# Altium schematic symbol library NuM487_DEVB.SchLib: 14 symbols
Pins are listed as number, name and electrical type; pins without a type are passive.

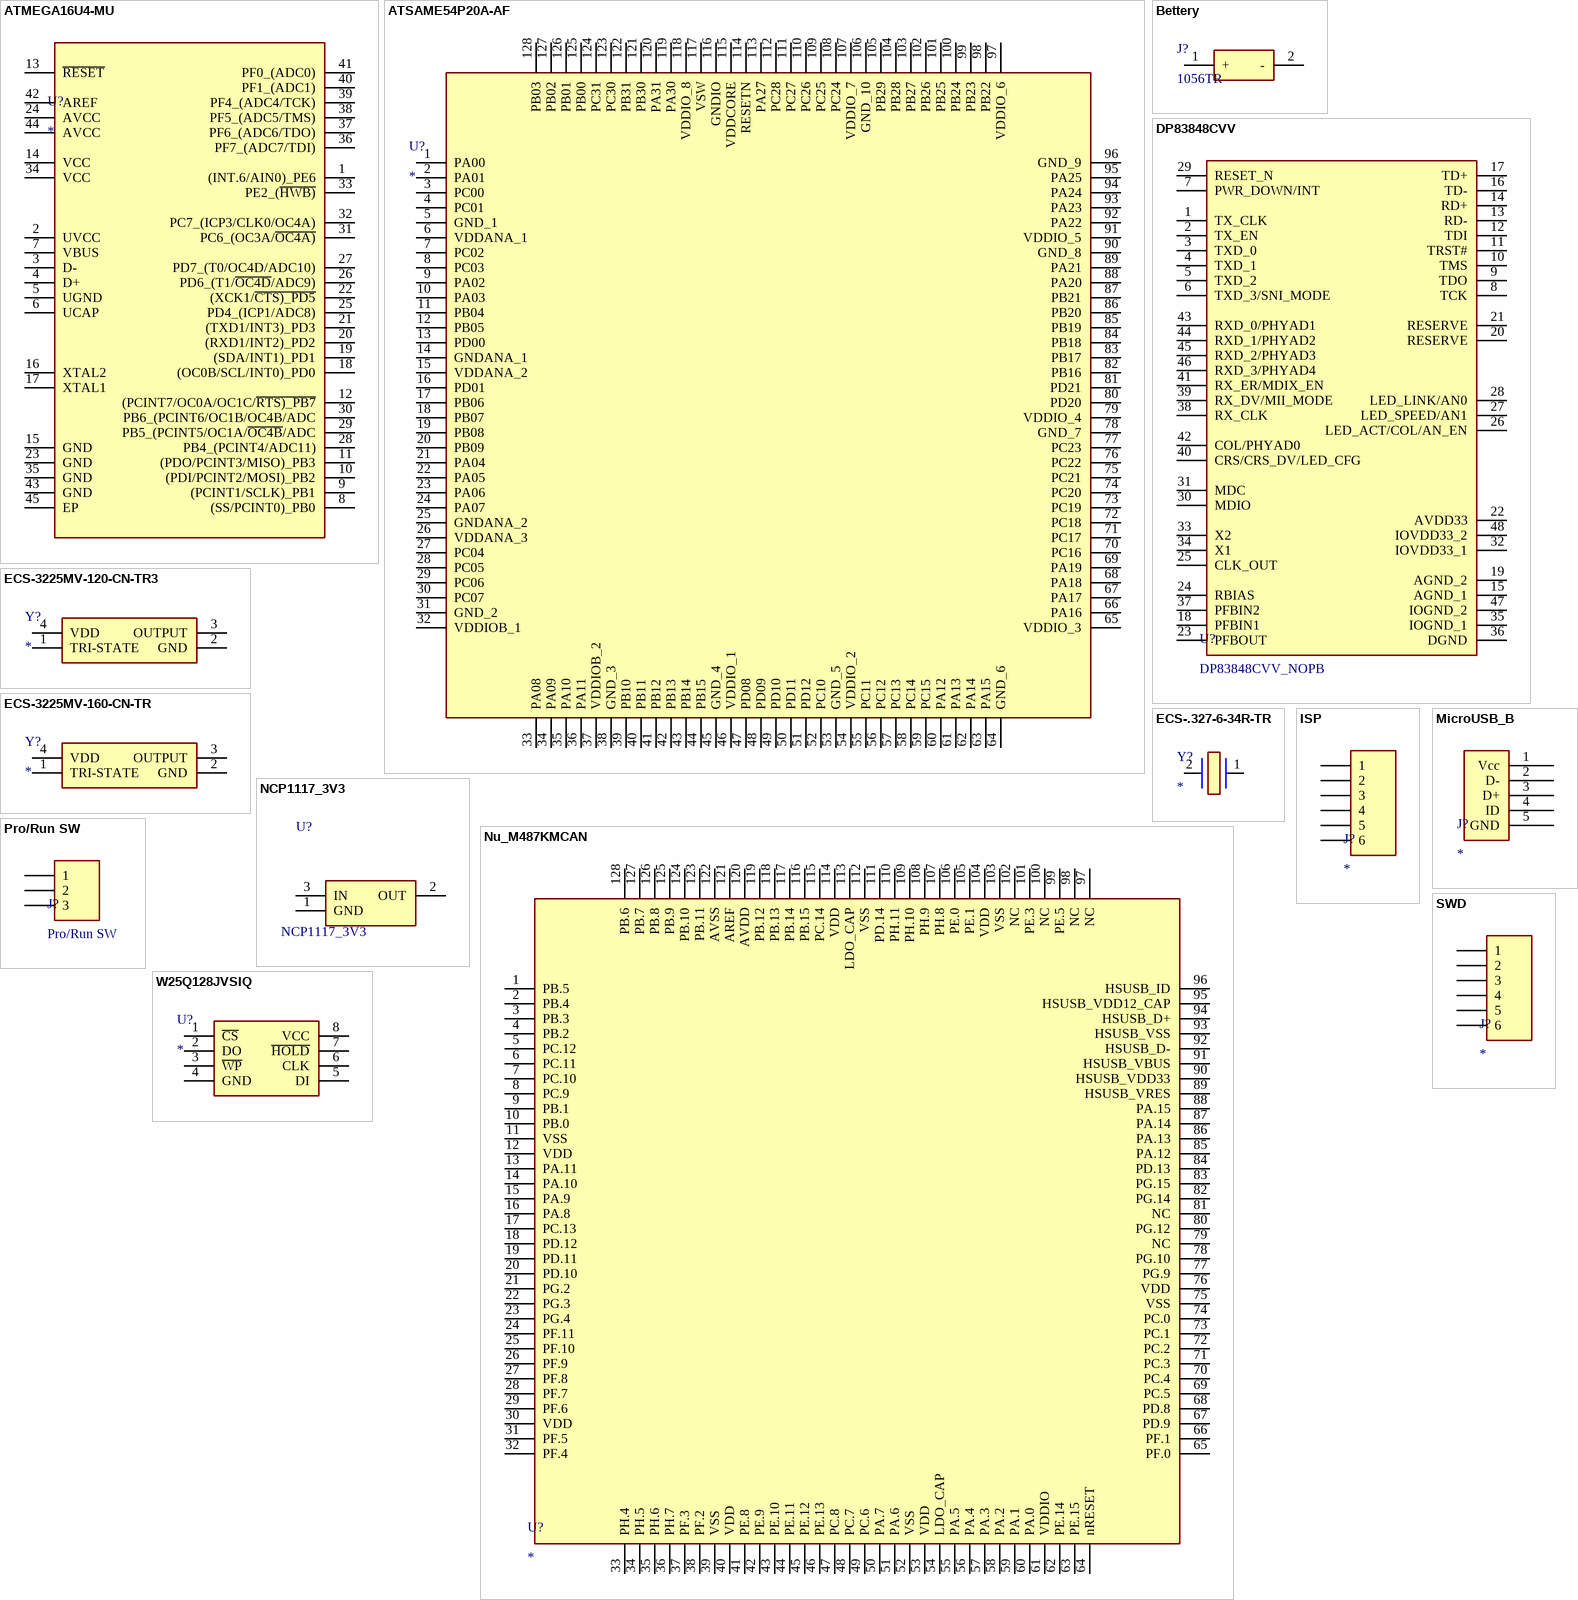
[diagram p0: symbols ATMEGA16U4-MU to W25Q128JVSIQ]

## ATMEGA16U4-MU
designator U?
Integrated Circuit; Manufacturer_Name: Microchip; Manufacturer_Part_Number: ATMEGA16U4-MU; Datasheet Link: http://ww1.microchip.com/downloads/en/DeviceDoc/Atmel-7766-8-bit-AVR-ATmega16U4-32U4_Summary.pdf; Height: 1mm
footprint QFN50P700X700X100-45N-D
pins: 1 (INT.6/AIN0)_PE6, 2 UVCC, 3 D-, 4 D+, 5 UGND, 6 UCAP, 7 VBUS, 8 (SS/PCINT0)_PB0, 9 (PCINT1/SCLK)_PB1, 10 (PDI/PCINT2/MOSI)_PB2, 11 (PDO/PCINT3/MISO)_PB3, 12 (PCINT7/OC0A/OC1C/~{RTS)_PB7}, 13 ~{RESET}, 14 VCC, 15 GND, 16 XTAL2, 17 XTAL1, 18 (OC0B/SCL/INT0)_PD0, 19 (SDA/INT1)_PD1, 20 (RXD1/INT2)_PD2, 21 (TXD1/INT3)_PD3, 22 (XCK1/~{CTS)_PD5}, 23 GND, 24 AVCC, 25 PD4_(ICP1/ADC8), 26 PD6_(T1/~{OC4D}/ADC9), 27 PD7_(T0/OC4D/ADC10), 28 PB4_(PCINT4/ADC11), 29 PB5_(PCINT5/OC1A/~{OC4B}/ADC, 30 PB6_(PCINT6/OC1B/OC4B/ADC, 31 PC6_(OC3A/~{OC4A)}, 32 PC7_(ICP3/CLK0/OC4A), 33 PE2_(~{HWB)}, 34 VCC, 35 GND, 36 PF7_(ADC7/TDI), 37 PF6_(ADC6/TDO), 38 PF5_(ADC5/TMS), 39 PF4_(ADC4/TCK), 40 PF1_(ADC1), 41 PF0_(ADC0), 42 AREF, 43 GND, 44 AVCC, 45 EP

## ATSAME54P20A-AF
designator U?
Integrated Circuit; Manufacturer_Name: Microchip; Manufacturer_Part_Number: ATSAME54P20A-AF; Datasheet Link: https://componentsearchengine.com//ATSAME54P20A-AF.pdf; Height: 1.2mm; Mouser2 Part Number: 556-ATSAME54P20A-AF; Mouser2 Price/Stock: https://www.mouser.com/Search/Refine.aspx?Keyword=556-ATSAME54P20A-AF
footprint QFP40P1600X1600X120-128N
pins: 1 PA00, 2 PA01, 3 PC00, 4 PC01, 5 GND_1, 6 VDDANA_1, 7 PC02, 8 PC03, 9 PA02, 10 PA03, 11 PB04, 12 PB05, 13 PD00, 14 GNDANA_1, 15 VDDANA_2, 16 PD01, 17 PB06, 18 PB07, 19 PB08, 20 PB09, 21 PA04, 22 PA05, 23 PA06, 24 PA07, 25 GNDANA_2, 26 VDDANA_3, 27 PC04, 28 PC05, 29 PC06, 30 PC07, 31 GND_2, 32 VDDIOB_1, 33 PA08, 34 PA09, 35 PA10, 36 PA11, 37 VDDIOB_2, 38 GND_3, 39 PB10, 40 PB11, 41 PB12, 42 PB13, 43 PB14, 44 PB15, 45 GND_4, 46 VDDIO_1, 47 PD08, 48 PD09, 49 PD10, 50 PD11, 51 PD12, 52 PC10, 53 GND_5, 54 VDDIO_2, 55 PC11, 56 PC12, 57 PC13, 58 PC14, 59 PC15, 60 PA12, 61 PA13, 62 PA14, 63 PA15, 64 GND_6, 65 VDDIO_3, 66 PA16, 67 PA17, 68 PA18, 69 PA19, 70 PC16, 71 PC17, 72 PC18, 73 PC19, 74 PC20, 75 PC21, 76 PC22, 77 PC23, 78 GND_7, 79 VDDIO_4, 80 PD20, 81 PD21, 82 PB16, 83 PB17, 84 PB18, 85 PB19, 86 PB20, 87 PB21, 88 PA20, 89 PA21, 90 GND_8, 91 VDDIO_5, 92 PA22, 93 PA23, 94 PA24, 95 PA25, 96 GND_9, 97 VDDIO_6, 98 PB22, 99 PB23, 100 PB24, 101 PB25, 102 PB26, 103 PB27, 104 PB28, 105 PB29, 106 GND_10, 107 VDDIO_7, 108 PC24, 109 PC25, 110 PC26, 111 PC27, 112 PC28, 113 PA27, 114 RESETN, 115 VDDCORE, 116 GNDIO, 117 VSW, 118 VDDIO_8, 119 PA30, 120 PA31, 121 PB30, 122 PB31, 123 PC30, 124 PC31, 125 PB00, 126 PB01, 127 PB02, 128 PB03

## Bettery
designator J?, comment 1056TR
Undefined or Miscellaneous; Manufacturer_Name: Keystone Electronics; Datasheet Link: https://componentsearchengine.com//1056TR.pdf; Mouser2 Part Number: 534-1056TR; Mouser2 Price/Stock: https://www.mouser.com/Search/Refine.aspx?Keyword=534-1056TR; Manufacturer_Part_Number: 1056TR
footprint 1056TR
pins: 1 +, 2 -

## DP83848CVV
designator U?, comment DP83848CVV_NOPB
Ethernet phy
pins: 1 TX_CLK, 2 TX_EN, 3 TXD_0, 4 TXD_1, 5 TXD_2, 6 TXD_3/SNI_MODE, 7 PWR_DOWN/INT, 8 TCK, 9 TDO, 10 TMS, 11 TRST#, 12 TDI, 13 RD-, 14 RD+, 15 AGND_1, 16 TD-, 17 TD+, 18 PFBIN1, 19 AGND_2, 20 RESERVE, 21 RESERVE, 22 AVDD33, 23 PFBOUT, 24 RBIAS, 25 CLK_OUT, 26 LED_ACT/COL/AN_EN, 27 LED_SPEED/AN1, 28 LED_LINK/AN0, 29 RESET_N, 30 MDIO, 31 MDC, 32 IOVDD33_1, 33 X2, 34 X1, 35 IOGND_1, 36 DGND, 37 PFBIN2, 38 RX_CLK, 39 RX_DV/MII_MODE, 40 CRS/CRS_DV/LED_CFG, 41 RX_ER/MDIX_EN, 42 COL/PHYAD0, 43 RXD_0/PHYAD1, 44 RXD_1/PHYAD2, 45 RXD_2/PHYAD3, 46 RXD_3/PHYAD4, 47 IOGND_2, 48 IOVDD33_2

## ECS-3225MV-120-CN-TR3
designator Y?
Crystal or Oscillator; Manufacturer_Name: ECS; Manufacturer_Part_Number: ECS-3225MV-120-CN-TR3; Datasheet Link: https://ecsxtal.com/store/pdf/ECS-3225MV.pdf; Height: 1.2mm
footprint ECS3225MV120CNTR3
pins: 1 TRI-STATE, 2 GND, 3 OUTPUT, 4 VDD

## ECS-3225MV-160-CN-TR
designator Y?
Crystal or Oscillator; Manufacturer_Name: ECS; Manufacturer_Part_Number: ECS-3225MV-160-CN-TR; Datasheet Link: https://componentsearchengine.com//ECS-3225MV-160-CN-TR.pdf; Height: 1.2mm; Mouser2 Part Number: 520-3225MV-160-CNT; Mouser2 Price/Stock: https://www.mouser.com/Search/Refine.aspx?Keyword=520-3225MV-160-CNT
footprint ECS3225MV160CNTR
pins: 1 TRI-STATE, 2 GND, 3 OUTPUT, 4 VDD

## ECS-.327-6-34R-TR
designator Y?
Crystal or Oscillator; Manufacturer_Name: ECS; Manufacturer_Part_Number: ECS-.327-6-34R-TR; Datasheet Link: https://ecsxtal.com/store/pdf/ECX_34R.pdf; Height: 0.9mm
footprint ECS327634RTR
pins: 1 OUT/IN, 2 OUT/IN

## ISP
designator J?
pins: 1, 2, 3, 4, 5, 6

## MicroUSB_B
designator J?
footprint micro_usb_molex_105017-0001
pins: 1 Vcc, 2 D-, 3 D+, 4 ID, 5 GND

## NCP1117_3V3
designator U?
IC REG 3.3V 1A DPAC
footprint SOT-223-2 (SOT-223/SC-73; 4 Leads; Body 6.7 x 7.3 mm, inc. leads (LxW max))
footprint SOT230P700X180-4N
footprint SOT-223-2 (SOT-223/SC-73; 4 Leads; Body 6.7 x 7.3 mm, inc. leads (LxW max))
pins: 1 GND, 2 OUT, 3 IN

## Nu_M487KMCAN
designator U?
Integrated Circuit
footprint QFP40P1600X1600X120-128N
pins: 1 PB.5, 2 PB.4, 3 PB.3, 4 PB.2, 5 PC.12, 6 PC.11, 7 PC.10, 8 PC.9, 9 PB.1, 10 PB.0, 11 VSS, 12 VDD, 13 PA.11, 14 PA.10, 15 PA.9, 16 PA.8, 17 PC.13, 18 PD.12, 19 PD.11, 20 PD.10, 21 PG.2, 22 PG.3, 23 PG.4, 24 PF.11, 25 PF.10, 26 PF.9, 27 PF.8, 28 PF.7, 29 PF.6, 30 VDD, 31 PF.5, 32 PF.4, 33 PH.4, 34 PH.5, 35 PH.6, 36 PH.7, 37 PF.3, 38 PF.2, 39 VSS, 40 VDD, 41 PE.8, 42 PE.9, 43 PE.10, 44 PE.11, 45 PE.12, 46 PE.13, 47 PC.8, 48 PC.7, 49 PC.6, 50 PA.7, 51 PA.6, 52 VSS, 53 VDD, 54 LDO_CAP, 55 PA.5, 56 PA.4, 57 PA.3, 58 PA.2, 59 PA.1, 60 PA.0, 61 VDDIO, 62 PE.14, 63 PE.15, 64 nRESET, 65 PF.0, 66 PF.1, 67 PD.9, 68 PD.8, 69 PC.5, 70 PC.4, 71 PC.3, 72 PC.2, 73 PC.1, 74 PC.0, 75 VSS, 76 VDD, 77 PG.9, 78 PG.10, 79 NC, 80 PG.12, 81 NC, 82 PG.14, 83 PG.15, 84 PD.13, 85 PA.12, 86 PA.13, 87 PA.14, 88 PA.15, 89 HSUSB_VRES, 90 HSUSB_VDD33, 91 HSUSB_VBUS, 92 HSUSB_D-, 93 HSUSB_VSS, 94 HSUSB_D+, 95 HSUSB_VDD12_CAP, 96 HSUSB_ID, 97 NC, 98 NC, 99 PE.5, 100 NC, 101 PE.3, 102 NC, 103 VSS, 104 VDD, 105 PE.1, 106 PE.0, 107 PH.8, 108 PH.9, 109 PH.10, 110 PH.11, 111 PD.14, 112 VSS, 113 LDO_CAP, 114 VDD, 115 PC.14, 116 PB.15, 117 PB.14, 118 PB.13, 119 PB.12, 120 AVDD, 121 AREF, 122 AVSS, 123 PB.11, 124 PB.10, 125 PB.9, 126 PB.8, 127 PB.7, 128 PB.6

## Pro/Run SW
designator J?
Program/Run Switch
pins: 1, 2, 3

## SWD
designator J?
pins: 1, 2, 3, 4, 5, 6

## W25Q128JVSIQ
designator U?
Integrated Circuit; Manufacturer_Name: Winbond; Manufacturer_Part_Number: W25Q128JVSIQ; Datasheet Link: https://componentsearchengine.com//W25Q128JVSIQ.pdf; Height: 2.16mm; Mouser2 Part Number: 454-W25Q128JVSIQ; Mouser2 Price/Stock: https://www.mouser.com/Search/Refine.aspx?Keyword=454-W25Q128JVSIQ
footprint SOIC127P790X216-8N
pins: 1 ~{CS}, 2 DO, 3 ~{WP}, 4 GND, 5 DI, 6 CLK, 7 ~{HOLD}, 8 VCC